# EAGLE library part RICKK2_MCP79410-RTC (library FeatherRTC)
Microchip Technology MCP79410-I/SN $0.93 IC RTC CLK/CALENDAR I2C 8-SOIC Real Time Clock (RTC) IC Clock/Calendar 64B, 1Kb I²C, 2-Wire Serial 8-SOIC (0.154", 3.90mm Width) https://www.digikey.com/product-detail/en/microchip-technology/MCP79410-I-SN/MCP79410-I-SN-ND/2480419
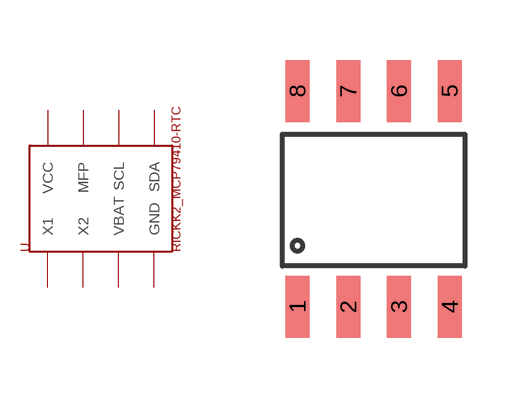
[diagram p1: symbol with the pads of RICKK2_8-SOIC-MICROCHIP-3.9; footprint RICKK2_8-SOIC-MICROCHIP-3.9]

Designator prefix -

## RICKK2_MCP79410-RTC  [RICKK2_8-SOIC-MICROCHIP-3.9]
1  X1  pas
2  X2  pas
3  VBAT  pwr
4  GND  pas
5  SDA
6  SCL
7  MFP  out
8  VCC  pwr

## Footprint RICKK2_8-SOIC-MICROCHIP-3.9 (pad centres in mm)
smd 0.6 x 1.55: 1 0,0; 2 1.27,0; 3 2.54,0; 4 3.81,0; 5 3.81,5.4; 6 2.54,5.4; 7 1.27,5.4; 8 0,5.4